# EAGLE library part TM4C1233H6PM (library Hardware)
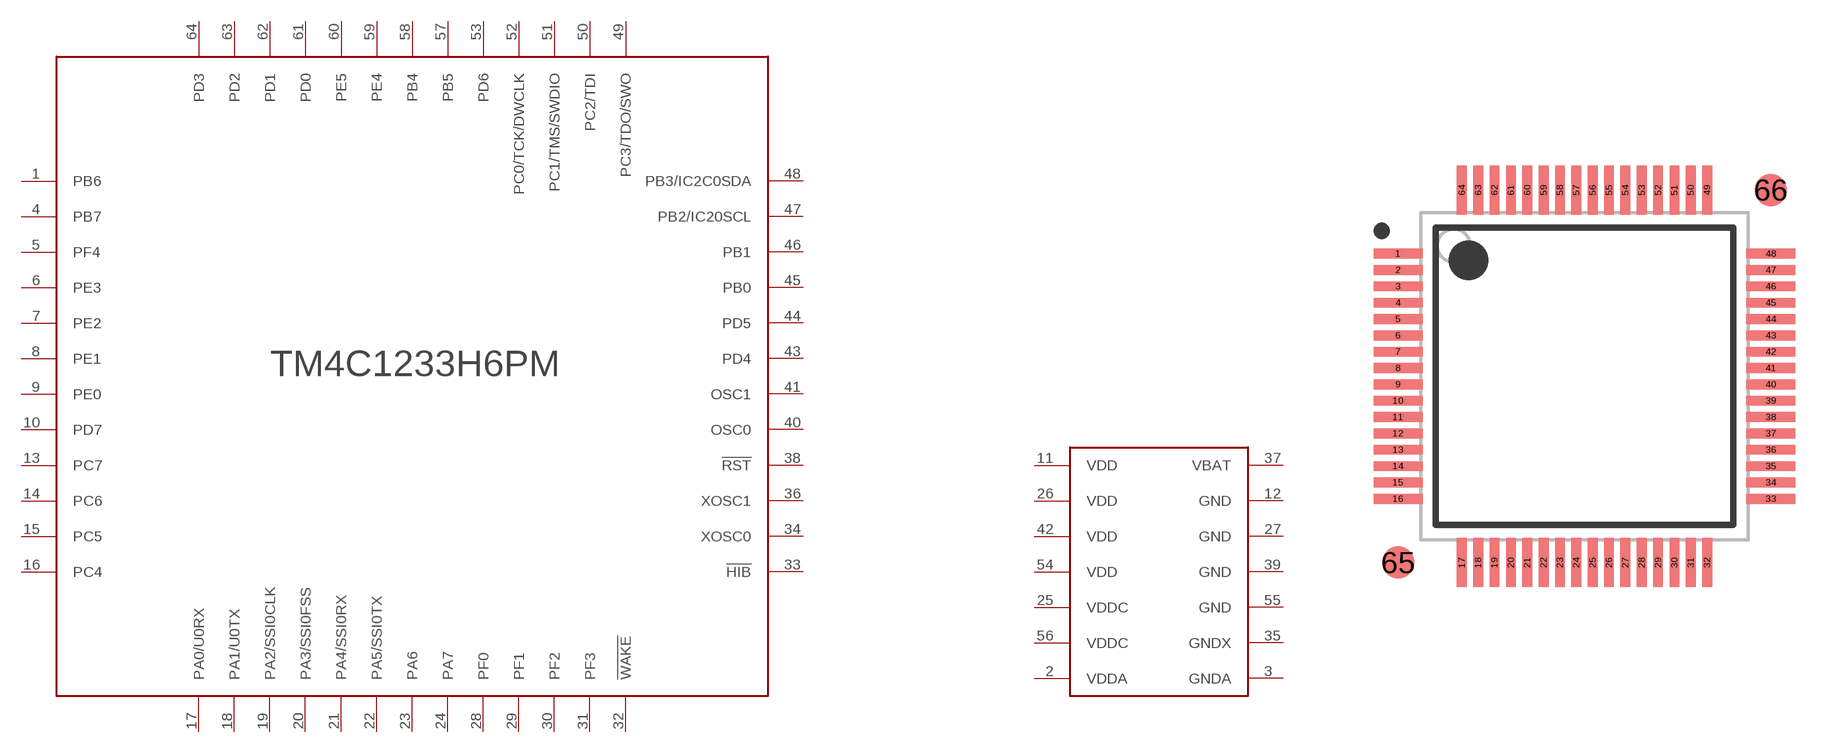
[diagram p0: symbol with the pads of QFP50P1200X1200X160-64N; footprint QFP50P1200X1200X160-64N]

Designator prefix -; gates G$1=TM4C1233H6PM_UC G$2=TM4C1233H6PM_PWR

## TM4C1233H6PM  [QFP50P1200X1200X160-64N]
1  G$1:PB6
2  G$2:VDDA
3  G$2:GNDA
4  G$1:PB7
5  G$1:PF4
6  G$1:PE3
7  G$1:PE2
8  G$1:PE1
9  G$1:PE0
10  G$1:PD7
11  G$2:VDD
12  G$2:GND
13  G$1:PC7
14  G$1:PC6
15  G$1:PC5
16  G$1:PC4
17  G$1:PA0/U0RX
18  G$1:PA1/U0TX
19  G$1:PA2/SSI0CLK
20  G$1:PA3/SSI0FSS
21  G$1:PA4/SSI0RX
22  G$1:PA5/SSI0TX
23  G$1:PA6
24  G$1:PA7
25  G$2:VDDC
26  G$2:VDD
27  G$2:GND
28  G$1:PF0
29  G$1:PF1
30  G$1:PF2
31  G$1:PF3
32  G$1:!WAKE
33  G$1:!HIB
34  G$1:XOSC0
35  G$2:GNDX
36  G$1:XOSC1
37  G$2:VBAT
38  G$1:!RST
39  G$2:GND
40  G$1:OSC0
41  G$1:OSC1
42  G$2:VDD
43  G$1:PD4
44  G$1:PD5
45  G$1:PB0
46  G$1:PB1
47  G$1:PB2/IC20SCL
48  G$1:PB3/IC2C0SDA
49  G$1:PC3/TDO/SWO
50  G$1:PC2/TDI
51  G$1:PC1/TMS/SWDIO
52  G$1:PC0/TCK/DWCLK
53  G$1:PD6
54  G$2:VDD
55  G$2:GND
56  G$2:VDDC
57  G$1:PB5
58  G$1:PB4
59  G$1:PE4
60  G$1:PE5
61  G$1:PD0
62  G$1:PD1
63  G$1:PD2
64  G$1:PD3

## Footprint QFP50P1200X1200X160-64N (pad centres in mm)
PCB Libraries Package
smd 1.5 x 0.3: 1 -5.7,3.75; 2 -5.7,3.25; 3 -5.7,2.75; 4 -5.7,2.25; 5 -5.7,1.75; 6 -5.7,1.25; 7 -5.7,0.75; 8 -5.7,0.25; 9 -5.7,-0.25; 10 -5.7,-0.75; 11 -5.7,-1.25; 12 -5.7,-1.75; 13 -5.7,-2.25; 14 -5.7,-2.75; 15 -5.7,-3.25; 16 -5.7,-3.75; 33 5.7,-3.75; 34 5.7,-3.25; 35 5.7,-2.75; 36 5.7,-2.25; 37 5.7,-1.75; 38 5.7,-1.25; 39 5.7,-0.75; 40 5.7,-0.25; 41 5.7,0.25; 42 5.7,0.75; 43 5.7,1.25; 44 5.7,1.75; 45 5.7,2.25; 46 5.7,2.75; 47 5.7,3.25; 48 5.7,3.75
smd 0.3 x 1.5: 17 -3.75,-5.7; 18 -3.25,-5.7; 19 -2.75,-5.7; 20 -2.25,-5.7; 21 -1.75,-5.7; 22 -1.25,-5.7; 23 -0.75,-5.7; 24 -0.25,-5.7; 25 0.25,-5.7; 26 0.75,-5.7; 27 1.25,-5.7; 28 1.75,-5.7; 29 2.25,-5.7; 30 2.75,-5.7; 31 3.25,-5.7; 32 3.75,-5.7; 49 3.75,5.7; 50 3.25,5.7; 51 2.75,5.7; 52 2.25,5.7; 53 1.75,5.7; 54 1.25,5.7; 55 0.75,5.7; 56 0.25,5.7; 57 -0.25,5.7; 58 -0.75,5.7; 59 -1.25,5.7; 60 -1.75,5.7; 61 -2.25,5.7; 62 -2.75,5.7; 63 -3.25,5.7; 64 -3.75,5.7
smd 1 x 1: 65 -5.7,-5.7; 66 5.7,5.7